# Altium footprint library BB-HEADER-P01-P01.PcbLib: 1 footprints
Each footprint in its own frame and in the unit in brackets; x right, y up, seen from the top. Pads: shape width x height; smd on the part's side, far side on the other; paste and mask are expansions set on the pad; w line width, h text height; cw(c..) or ccw(c..) is an arc to the next point about the centre after c.
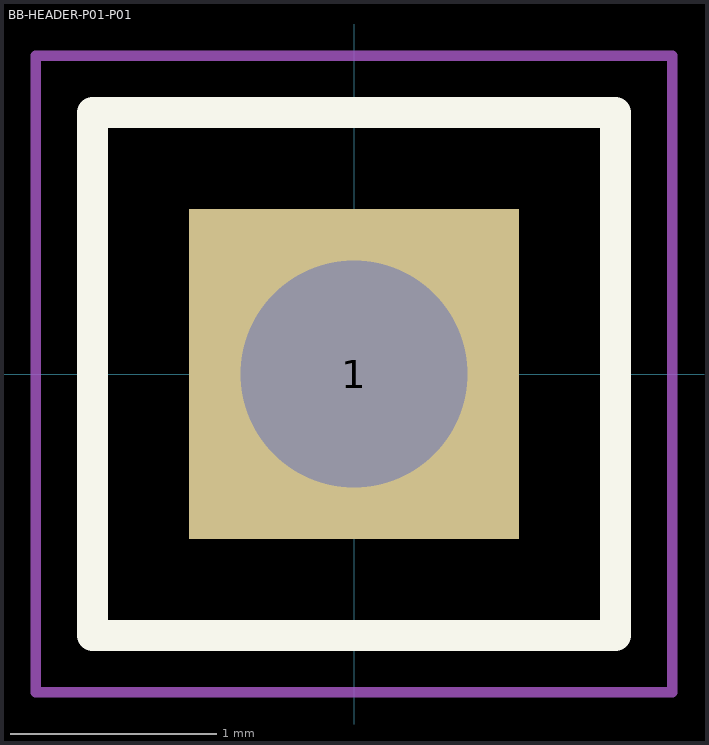
[diagram p0: the footprint, top view; thin cyan lines are the x and y axes]

## BB-HEADER-P01-P01 [mm] "BB Header, Vertical, Male, 0.1\", 2.54mm, P01-P01"
height 11.6
pads (1):
  rect 1.6x1.6 hole 1.1: 1(0,0)
Top Overlay:
  lines w0.152: -1.27,-1.27 -1.27,1.27 1.27,1.27 1.27,-1.27 -1.27,-1.27
Mechanical 13:
  lines w0.1: -1.27,-1.27 1.27,-1.27 1.27,1.27 -1.27,1.27 -1.27,-1.27
Mechanical 15:
  lines w0.05: -1.545,-1.545 1.545,-1.545 1.545,1.545 -1.545,1.545 -1.545,-1.545
3D body: height 8.57, standoff -2.97, extent -1.27,-1.27 1.27,1.27